# Altium schematic symbol library XFMR.SchLib: 1 symbol
Pins are listed as number, name and electrical type; pins without a type are passive.

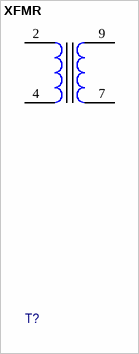
[diagram p0: symbol XFMR]

## XFMR
designator T?
pins: 2 PRI2, 4 PRI1, 7 SEC1, 9 SEC2